# EAGLE library part MAX3235E (library ASL)
±15kV ESD-Protected, 1µA, 250kbps, 3.3V/5V, Dual RS-232 Transceivers with Internal Capacitors
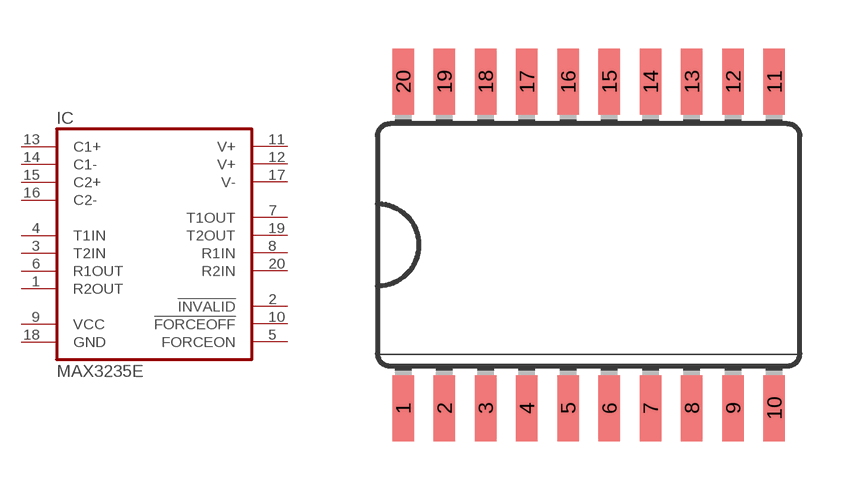
[diagram p30: symbol with the pads of SO20L; footprint SO20L]

Designator prefix IC

## MAX3235E (MF: MAXIM; MPN: MAX3235E; OC_FARNELL: 9725547; OC_NEWARK: 28K3302)  [SO20L]
1  R2OUT  out
2  !INVALID  out
3  T2IN  in
4  T1IN  in
5  FORCEON  in
6  R1OUT  out
7  T1OUT  out
8  R1IN  in
9  VCC  pwr
10  !FORCEOFF  in
11  V+  pas
12  V+  pas
13  C1+  pas
14  C1-  pas
15  C2+  pas
16  C2-  pas
17  V-  pas
18  GND  pwr
19  T2OUT  out
20  R2IN  in

## Footprint SO20L (pad centres in mm)
Small Outline Package
smd 0.66 x 2.032: 1 -5.715,-5.029; 2 -4.445,-5.029; 3 -3.175,-5.029; 4 -1.905,-5.029; 5 -0.635,-5.029; 6 0.635,-5.029; 7 1.905,-5.029; 8 3.175,-5.029; 9 4.445,-5.029; 10 5.715,-5.029; 11 5.715,5.029; 12 4.445,5.029; 13 3.175,5.029; 14 1.905,5.029; 15 0.635,5.029; 16 -0.635,5.029; 17 -1.905,5.029; 18 -3.175,5.029; 19 -4.445,5.029; 20 -5.715,5.029